# EAGLE library part LM5013QDDARQ1 (library LM5013QDDARQ1)
Switching Voltage Regulators 6-V to 100-V input, 3.5-A non-synchronous buck DC/DC converter with ultra-low quiescent current (IQ) Source: Datasheet <https://www.ti.com/lit/ds/symlink/lm5013-q1.pdf?ts=1650857966126&ref_url=https%3A%2F%2Fwww.ti.com%2Fproduct%2FLM5013-Q1%3FkeyMatch%3DLM5013QDDARQ1%26tisearch%3Dsearch-everything%26usecase%3DOPN>
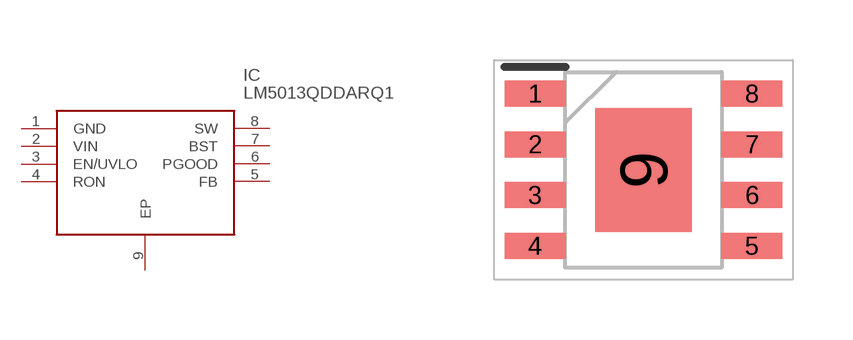
[diagram p0: symbol with the pads of SOIC127P600X170-9N; footprint SOIC127P600X170-9N]

Designator prefix IC

## LM5013QDDARQ1 (Description: Switching Voltage Regulators 6-V to 100-V input, 3.5-A non-synchronous buck DC/DC converter with ultra-low quiescent current (IQ); Height: 1.7mm; Manufacturer_Name: Texas Instruments; Manufacturer_Part_Number: LM5013QDDARQ1; Mouser_Part_Number: 595-LM5013QDDARQ1; Mouser_Price-Stock: https://www.mouser.co.uk/ProductDetail/Texas-Instruments/LM5013QDDARQ1?qs=t7xnP681wgX%2F7Fftd5oLmw%3D%3D)  [SOIC127P600X170-9N]
1  GND
2  VIN
3  EN/UVLO
4  RON
5  FB
6  PGOOD
7  BST
8  SW
9  EP

## Footprint SOIC127P600X170-9N (pad centres in mm)
DDA (PDSO-G8)
smd 1.525 x 0.65: 1 -2.712,1.905; 2 -2.712,0.635; 3 -2.712,-0.635; 4 -2.712,-1.905; 5 2.712,-1.905; 6 2.712,-0.635; 7 2.712,0.635; 8 2.712,1.905
smd 2.4 x 3.1: 9 0,0